# Altium schematic symbol library SCH - RF - MODULE - U-BLOX NEO-F10T-00B.SCHLIB: 1 symbol
Pins are listed as number, name and electrical type; pins without a type are passive.

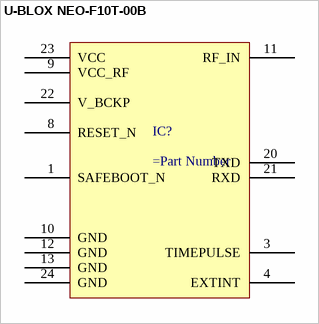
[diagram p0: symbol U-BLOX NEO-F10T-00B]

## U-BLOX NEO-F10T-00B
designator IC?
pins: 1 SAFEBOOT_N, 3 TIMEPULSE, 4 EXTINT, 8 RESET_N, 9 VCC_RF, 10 GND, 11 RF_IN, 12 GND, 13 GND, 20 TXD, 21 RXD, 22 V_BCKP, 23 VCC, 24 GND